# Altium footprint library Footprint.PcbLib: 15 footprints
Each footprint in its own frame and in the unit in brackets; x right, y up, seen from the top. Pads: shape width x height; smd on the part's side, far side on the other; paste and mask are expansions set on the pad; w line width, h text height; cw(c..) or ccw(c..) is an arc to the next point about the centre after c.
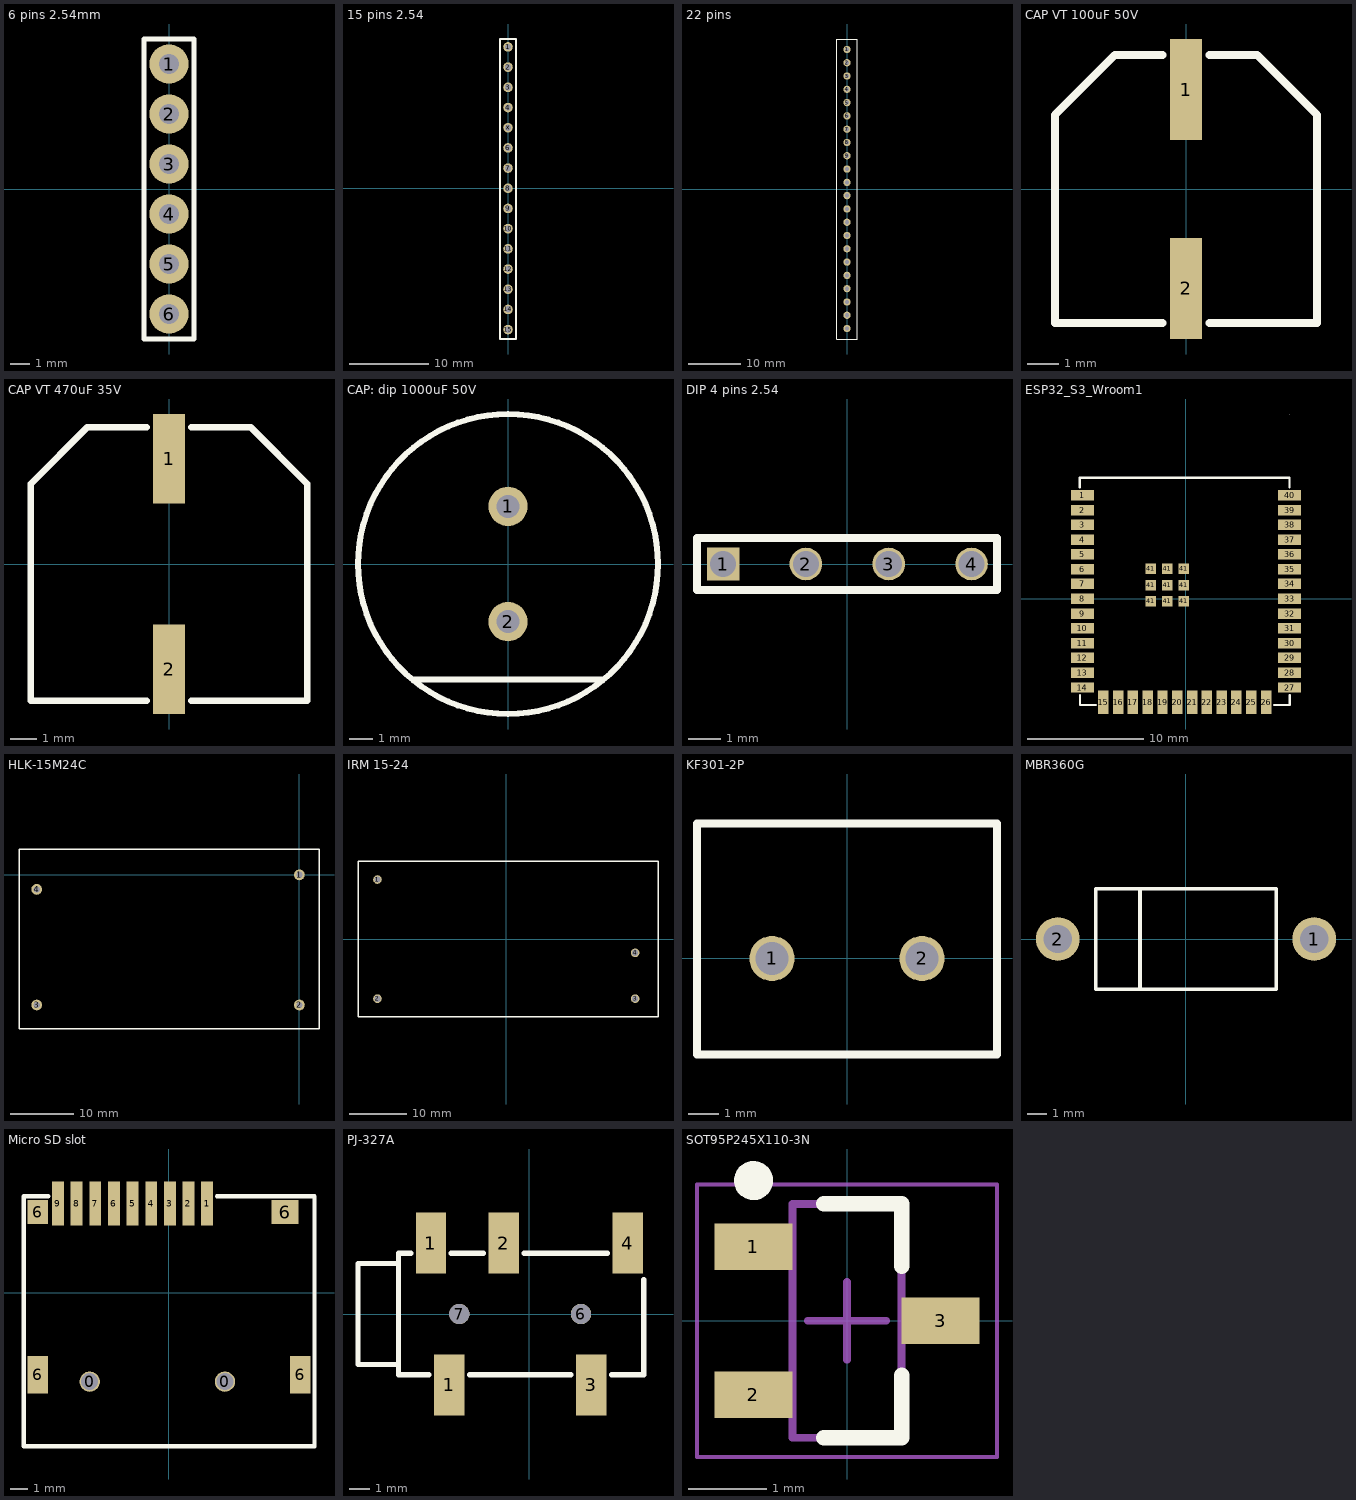
[diagram p0: the footprints below, top view; thin cyan lines are the x and y axes]

## 6 pins 2.54mm [mm]
pads (6):
  round 2 hole 1: 1(0,6.35) 2(0,3.81) 3(0,1.27) 4(0,-1.27) 5(0,-3.81) 6(0,-6.35)
Top Overlay:
  lines w0.256: -1.27,-7.62 1.27,-7.62 1.27,7.62 -1.27,7.62 -1.27,-7.62

## 15 pins 2.54 [mm]
pads (15):
  round 1.2 hole 0.8: 1(0,17.78) 2(0,15.24) 3(0,12.7) 4(0,10.16) 6(0,5.08) 7(0,2.54) 8(0,0) 9(0,-2.54) 10(0,-5.08) 11(0,-7.62) 12(0,-10.16) 13(0,-12.7) 14(0,-15.24) 15(0,-17.78) x(0,7.62)
Top Overlay:
  lines w0.254: -1,-18.96 -1,-13.72 -1,18.78 1,18.78 1,-18.96 -1,-18.96

## 22 pins [mm]
pads (22):
  round 1.4 hole 0.8 mask+0.102: 1(0,26.67) 2(0,24.13) 3(0,21.59) 4(0,19.05) 5(0,16.51) 6(0,13.97) 7(0,11.43) 8(0,8.89) 9(0,6.35) 10(0,3.81) 11(0,1.27) 12(0,-1.27) 13(0,-3.81) 14(0,-6.35) 15(0,-8.89) 16(0,-11.43) 17(0,-13.97) 18(0,-16.51) 19(0,-19.05) 20(0,-21.59) 21(0,-24.13) 22(0,-26.67)
Top Overlay:
  lines w0.2: -2,-28.67 -2,28.67 2,28.67 2,-28.67 -2,-28.67

## CAP VT 100uF 50V [mm]
pads (2):
  rect 1x3.2 smd: 1(0,3.15) 2(0,-3.15)
Top Overlay:
  lines w0.254: -0.75,-4.25 -4.15,-4.25 -4.15,2.35 -2.25,4.25 -0.75,4.25 ; 0.75,-4.25 4.15,-4.25 4.15,2.35 2.25,4.25 0.75,4.25
3D body "D8_H10.2_v2.step": height 10.21, standoff 0, extent -4.15,-4.663 4.15,4.663

## CAP VT 470uF 35V [mm]
pads (2):
  rect 1.2x3.4 smd: 1(0,4) 2(0,-4)
Top Overlay:
  lines w0.254: -0.85,-5.2 -5.25,-5.2 -5.25,3.05 -3.1,5.2 -0.85,5.2 ; 0.85,-5.2 5.25,-5.2 5.25,3.05 3.1,5.2 0.85,5.2
3D body "D10_H10.step": height 10.01, standoff 0, extent -5.2,-5.663 5.2,5.663

## CAP: dip 1000uF 50V [mm]
pads (2):
  round 1.7 hole 1: 1(0,2.5) 2(0,-2.5)
Top Overlay:
  circle w0.254: c0,0 r6.5
  lines w0.254: -4.1,-5 4.1,-5
3D body "CAP 13x21 JRB.STEP": height 21.01, standoff -3.99, extent -6.5,-6.5 6.5,6.5

## DIP 4 pins 2.54 [mm]
pads (4):
  rect 1x1 hole 0.8: 1(-3.81,0)
  round 1 hole 0.8: 2(-1.27,0) 3(1.27,0) 4(3.81,0)
Top Overlay:
  lines w0.254: -4.61,-0.8 -4.61,0.8 4.59,0.8 4.59,-0.8 -4.61,-0.8

## ESP32_S3_Wroom1 [mm]
pads (49):
  rect 2x0.9 smd: 1(-8.887,8.893) 2(-8.887,7.623) 3(-8.887,6.353) 4(-8.887,5.083) 5(-8.887,3.813) 6(-8.887,2.543) 7(-8.887,1.273) 8(-8.887,0.003) 9(-8.887,-1.267) 10(-8.887,-2.537) 11(-8.887,-3.807) 12(-8.887,-5.077) 13(-8.887,-6.347) 14(-8.887,-7.617) 27(8.888,-7.617) 28(8.888,-6.347) 29(8.888,-5.077) 30(8.888,-3.807) 31(8.888,-2.537) 32(8.888,-1.267) 33(8.888,0.003) 34(8.888,1.273) 35(8.888,2.543) 36(8.888,3.813) 37(8.888,5.083) 38(8.888,6.353) 39(8.888,7.623) 40(8.888,8.893)
  rect 0.9x2 smd: 15(-7.097,-8.892) 16(-5.827,-8.892) 17(-4.557,-8.892) 18(-3.287,-8.892) 19(-2.017,-8.892) 20(-0.747,-8.892) 21(0.523,-8.892) 22(1.793,-8.892) 23(3.063,-8.892) 24(4.333,-8.892) 25(5.603,-8.892) 26(6.873,-8.892)
  rect 0.9x0.9 smd: 41(-3.007,-0.222) 41(-3.007,1.178) 41(-3.007,2.578) 41(-1.607,-0.222) 41(-1.607,1.178) 41(-1.607,2.578) 41(-0.207,-0.222) 41(-0.207,1.178) 41(-0.207,2.578)
Top Overlay:
  lines w0.01: 8.888,15.868 8.888,15.867
  lines w0.2: -9.112,10.383 8.886,10.383 ; -9.111,9.55 -9.111,10.383 ; -9.107,-8.272 -9.107,-9.122 -7.757,-9.122 ; 7.55,-9.125 8.9,-9.125 8.9,-8.275 ; 8.888,9.55 8.888,10.381
3D body "ESP32-S3-WROOM-1-N16R8.STEP": height 3.26, standoff 0.01, extent -9.107,-9.112 8.893,16.388

## HLK-15M24C [mm]
pads (4):
  round 1.7 hole 1 mask+0.102: 1(0,0) 2(0,-20.6) 3(-41.6,-20.6) 4(-41.6,-2.3)
Top Overlay:
  lines w0.2: -44.4,-24.4 -44.4,4.1 3.1,4.1 3.1,-24.4 -44.4,-24.4

## IRM 15-24 [mm]
pads (4):
  round 1.5 hole 1.1: 1(-22.5,10.4) 2(-22.5,-10.4) 3(22.5,-10.4) 4(22.5,-2.4)
Top Overlay:
  lines w0.254: -25.9,-13.575 -25.9,13.6 26.5,13.6 26.5,-13.575 -25.9,-13.575
3D body "power_supply_irm-15-24.stp": height 24.01, standoff -3.49, extent -25.9,-13.6 26.5,13.6

## KF301-2P [mm]
pads (2):
  round 1.5 hole 1.1: 1(-2.5,0) 2(2.5,0)
Top Overlay:
  lines w0.254: -5,-3.2 5,-3.2 5,4.5 -5,4.5 -5,-3.2
3D body "KF301-5.0-2P.step": height 10, standoff -3.6, extent -5,-3.2 5,4.5

## MBR360G [mm]
pads (2):
  round 2.3 hole 1.5 mask+0.102: 1(6.75,0) 2(-6.75,0)
Top Overlay:
  lines w0.2: -2.425,-2.65 -2.425,2.65 ; -4.75,-2.65 -4.75,2.65 4.75,2.65 4.75,-2.65 -4.75,-2.65

## Micro SD slot [mm]
pads (15):
  round 1.2 hole 1 unplated: 0(-4.68,-5.25) 0(3.3,-5.25)
  rect 0.7x2.6 smd: 1(2.25,5.25) 2(1.15,5.25) 3(0.05,5.25) 4(-1.05,5.25) 5(-2.15,5.25) 6(-3.25,5.25) 7(-4.35,5.25) 8(-5.45,5.25) 9(-6.55,5.25)
  rect 1.2x2.2 smd: 6(-7.75,-4.85) 6(7.75,-4.85)
  rect 1.2x1.4 smd: 6(-7.75,4.75)
  rect 1.6x1.4 smd: 6(6.85,4.75)
Top Overlay:
  lines w0.254: -7.13,5.68 -7.77,5.68 -8.57,5.68 -8.57,-9.06 8.566,-9.06 ; 2.83,5.68 8.58,5.68 8.58,-9.074

## PJ-327A [mm]
pads (7):
  rect 1.5x3 smd: 1(-4.85,3.5) 1(-3.95,-3.5) 2(-1.25,3.5) 3(3.05,-3.5) 4(4.85,3.5)
  round 1 hole 1 unplated: 6(2.55,0) 7(-3.45,0)
Top Overlay:
  lines w0.254: -6.45,-2.5 -8.45,-2.5 -8.45,2.5 -6.45,2.5 ; -5.85,3 -6.45,3 -6.45,-3 -4.95,-3 ; -3.85,3 -2.25,3 ; -2.95,-3 2.05,-3 ; -0.25,3 3.85,3 ; 4.05,-3 5.65,-3 5.65,1.7
3D body "PJ-327A.step": height 4.8, standoff -0.7, extent -8.65,-4.8 5.65,4.8

## SOT95P245X110-3N [mm] "SOT23, 3-Leads, Body 2,90x2,45mm, Pitch 0,95mm, IPC Medium Density"
height 1.1
pads (3):
  rect 1x0.6 smd: 1(-1.2,0.95) 2(-1.2,-0.95) 3(1.2,0)
Top Overlay:
  circle w0.25: c-1.2,1.8 r0.125
  lines w0.2: -0.3,-1.5 0.7,-1.5 0.7,-0.7 ; -0.3,1.5 0.7,1.5 0.7,0.7
Mechanical 13:
  lines w0.1: -0.7,-1.5 0.7,-1.5 0.7,1.5 -0.7,1.5 -0.7,-1.5
Mechanical 15:
  lines w0.05: -1.925,-1.75 1.925,-1.75 1.925,1.75 -1.925,1.75 -1.925,-1.75
  lines w0.1: -0.5,0 0.5,0 ; 0,-0.5 0,0.5
3D body: height 1.1, standoff 0.05, extent -0.7,-1.5 0.7,1.5